# Altium schematic symbol library SCH - POWER - LINEAR VREG - MICREL MIC5365 C5 D5.SchLib: 1 symbol
Pins are listed as number, name and electrical type; pins without a type are passive.

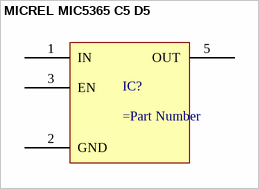
[diagram p0: symbol MICREL MIC5365 C5 D5]

## MICREL MIC5365 C5 D5
designator IC?
pins: 1 IN, 2 GND, 3 EN, 5 OUT